# Altium footprint library myLIB.PcbLib: 144 footprints (part 8 of 9)
Each footprint in its own frame and in the unit in brackets; x right, y up, seen from the top. Pads: shape width x height; smd on the part's side, far side on the other; paste and mask are expansions set on the pad; w line width, h text height; cw(c..) or ccw(c..) is an arc to the next point about the centre after c.
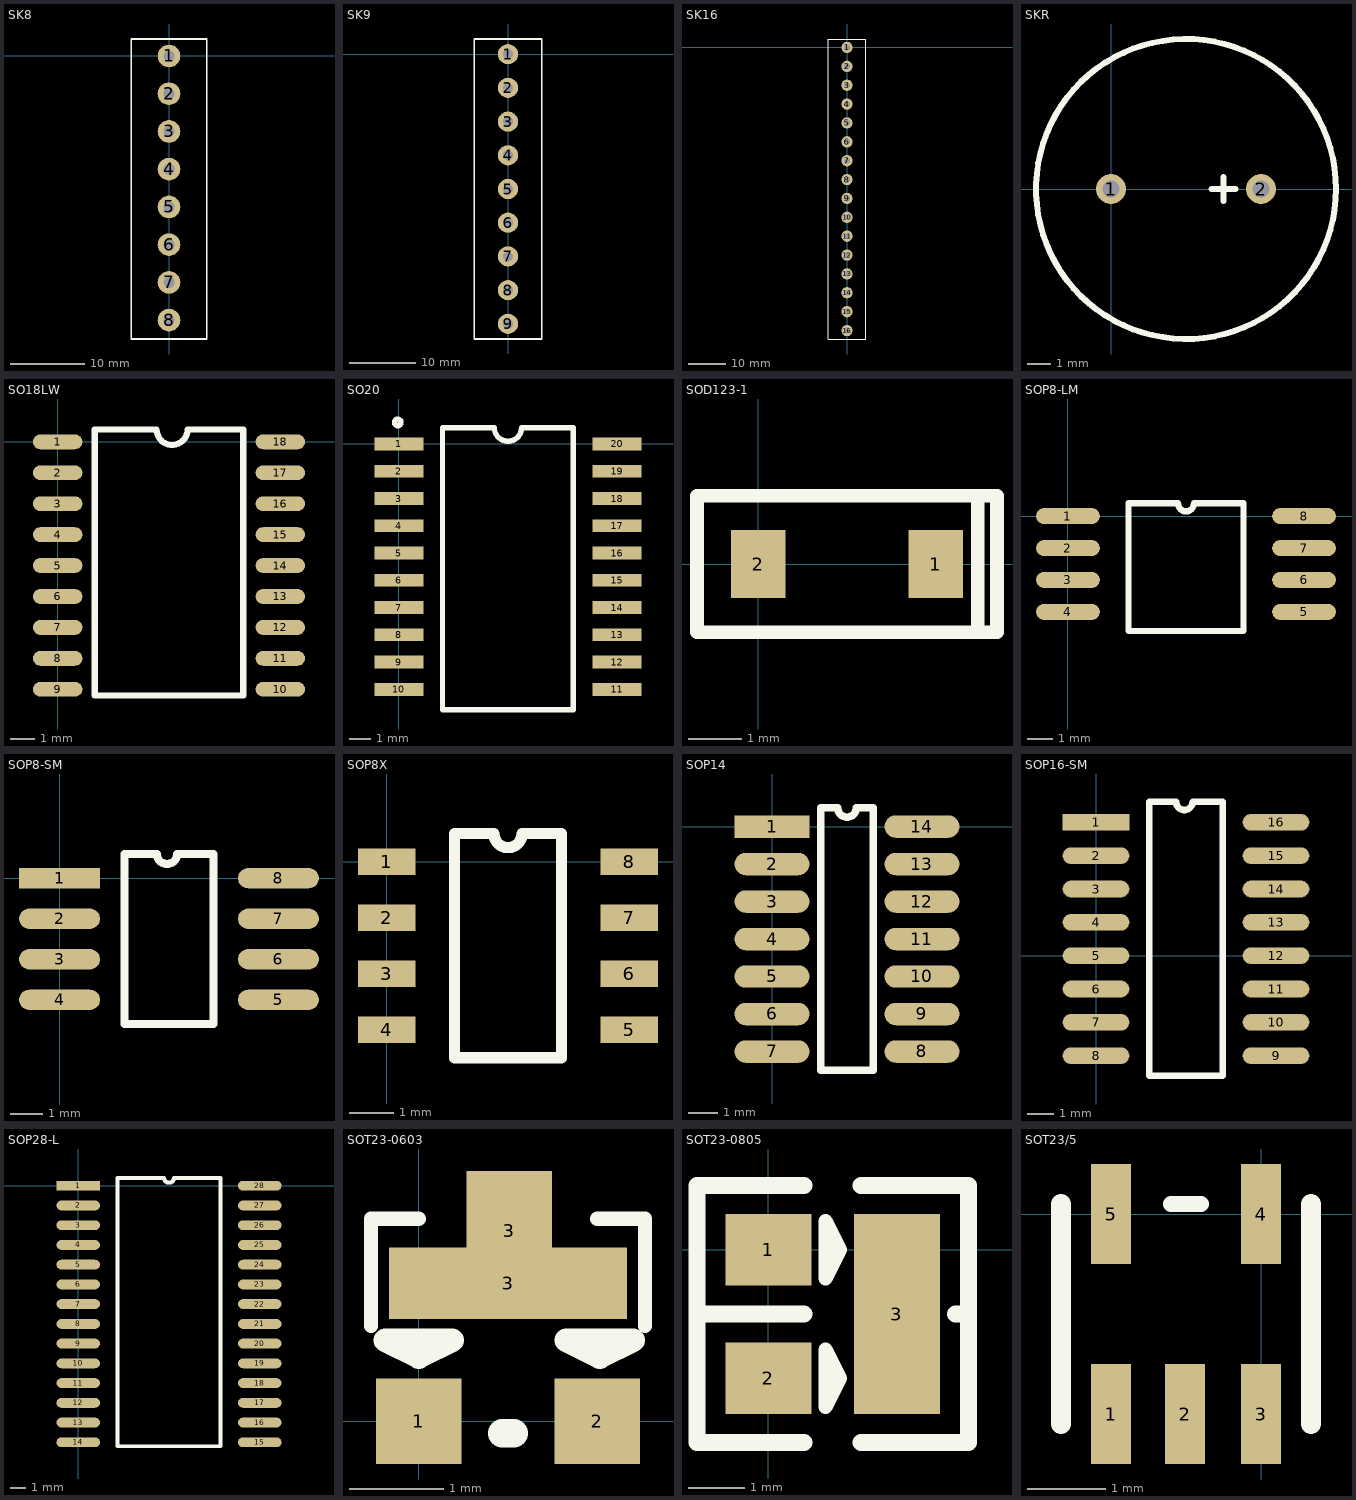
[diagram p7: the footprints below, top view; thin cyan lines are the x and y axes]

## SK8 [mil]
pads (8):
  round 120 hole 60: 1(0,0) 2(0,-200) 3(0,-400) 4(0,-600) 5(0,-800) 6(0,-1000) 7(0,-1200) 8(0,-1400)
TopOverlay:
  lines w10: -200,-1500 200,-1500 200,90 -200,90 -200,-1500

## SK9 [mil]
pads (9):
  round 120 hole 60: 1(0,0) 2(0,-200) 3(0,-400) 4(0,-600) 5(0,-800) 6(0,-1000) 7(0,-1200) 8(0,-1400) 9(0,-1600)
TopOverlay:
  lines w10: -200,-1690 -200,90 200,90 200,-1690 -200,-1690

## SK16 [mil]
pads (16):
  round 120 hole 60: 1(0,0) 2(0,-200) 3(0,-400) 4(0,-600) 5(0,-800) 6(0,-1000) 7(0,-1200) 8(0,-1400) 9(0,-1600) 10(0,-1800) 11(0,-2000) 12(0,-2200) 13(0,-2400) 14(0,-2600) 15(0,-2800) 16(0,-3000)
TopOverlay:
  lines w10: -200,-3090 200,-3090 200,90 -200,90 -200,-3090

## SKR [mil]
pads (2):
  round 50 hole 28: 1(0,0) 2(250,0)
TopOverlay:
  circle w10: c125,0 r250
  lines w10: 167.5,0 207.5,0 ; 187.5,-20 187.5,20

## SO18LW [mil]
pads (18):
  oval 80x24 smd: 1(0,0) 2(0,-50) 3(0,-100) 4(0,-150) 5(0,-200) 6(0,-250) 7(0,-300) 8(0,-350) 9(0,-400) 10(360,-400) 11(360,-350) 12(360,-300) 13(360,-250) 14(360,-200) 15(360,-150) 16(360,-100) 17(360,-50) 18(360,0)
TopOverlay:
  lines w10: 60,-410 60,20 160,20 ccw(c185,20) 210,20 300,20 300,-410 60,-410

## SO20 [mm]
pads (20):
  rect 2.3x0.6 smd: 1(0,0) 2(0,-1.27) 3(0,-2.54) 4(0,-3.81) 5(0,-5.08) 6(0,-6.35) 7(0,-7.62) 8(0,-8.89) 9(0,-10.16) 10(0,-11.43) 11(10.16,-11.43) 12(10.16,-10.16) 13(10.16,-8.89) 14(10.16,-7.62) 15(10.16,-6.35) 16(10.16,-5.08) 17(10.16,-3.81) 18(10.16,-2.54) 19(10.16,-1.27) 20(10.16,0)
TopOverlay:
  circle w0.25: c-0.053,1.002 r0.15
  lines w0.25: 2.028,-12.388 8.128,-12.388 8.128,0.762 5.713,0.762 cw(c5.078,0.762) 4.443,0.762 2.028,0.762 2.028,-12.388

## SOD123-1 [mil]
pads (2):
  rect 40x50 smd: 1(130,0) 2(0,0)
TopOverlay:
  lines w10: 161,-50 161,50 ; -45,-50 175,-50 175,50 -45,50 -45,0 -45,-50

## SOP8-LM [mil]
pads (8):
  oval 100x25 smd: 1(0,0) 2(0,-50) 3(0,-100) 4(0,-150) 5(370,-150) 6(370,-100) 7(370,-50) 8(370,0)
TopOverlay:
  lines w10: 95,-180 95,20 172.5,20 ccw(c185,20) 197.5,20 275,20 275,-180 95,-180

## SOP8-SM [mil]
pads (8):
  rect 100x25 smd: 1(0,0)
  oval 100x25 smd: 2(0,-50) 3(0,-100) 4(0,-150) 5(270,-150) 6(270,-100) 7(270,-50) 8(270,0)
TopOverlay:
  lines w10: 80,-180 190,-180 190,30 145,30 cw(c132.5,30) 120,30 80,30 80,-180

## SOP8X [mm]
pads (8):
  rect 1.3x0.6 smd: 1(0,0) 2(0,-1.27) 3(0,-2.54) 4(0,-3.81) 5(5.5,-3.81) 6(5.5,-2.54) 7(5.5,-1.27) 8(5.5,0)
TopOverlay:
  lines w0.254: 1.539,-4.445 1.539,0.635 2.432,0.635 ccw(c2.75,0.635) 3.067,0.635 3.961,0.635 3.961,-4.445 1.539,-4.445

## SOP14 [mil]
pads (14):
  rect 100x30 smd: 1(0,0)
  oval 100x30 smd: 2(0,-50) 3(0,-100) 4(0,-150) 5(0,-200) 6(0,-250) 7(0,-300) 8(200,-300) 9(200,-250) 10(200,-200) 11(200,-150) 12(200,-100) 13(200,-50) 14(200,0)
TopOverlay:
  lines w10: 65,-325 65,25 87.5,25 ccw(c100,25) 112.5,25 135,25 135,-325 65,-325

## SOP16-SM [mil]
pads (16):
  rect 100x25 smd: 1(0,200)
  oval 100x25 smd: 2(0,150) 3(0,100) 4(0,50) 5(0,0) 6(0,-50) 7(0,-100) 8(0,-150) 9(270,-150) 10(270,-100) 11(270,-50) 12(270,0) 13(270,50) 14(270,100) 15(270,150) 16(270,200)
TopOverlay:
  lines w10: 80,-180 80,231 120,231 ccw(c132.5,231) 145,231 190,231 190,-180 80,-180

## SOP28-L [mil]
pads (28):
  rect 110x25 smd: 1(0,0)
  oval 110x25 smd: 2(0,-50) 3(0,-100) 4(0,-150) 5(0,-200) 6(0,-250) 7(0,-300) 8(0,-350) 9(0,-400) 10(0,-450) 11(0,-500) 12(0,-550) 13(0,-600) 14(0,-650) 15(460,-650) 16(460,-600) 17(460,-550) 18(460,-500) 19(460,-450) 20(460,-400) 21(460,-350) 22(460,-300) 23(460,-250) 24(460,-200) 25(460,-150) 26(460,-100) 27(460,-50) 28(460,0)
TopOverlay:
  lines w10: 100,-660 100,20 217.5,20 ccw(c230,20) 242.5,20 360,20 360,-660 100,-660

## SOT23-0603 [mil]
pads (4):
  rect 36x36 smd: 1(0,0) 2(75,0)
  rect 100x30 smd: 3(37.5,58)
  rect 36x50 smd: 3(38,80)
TopOverlay:
  lines w6: -20,40 -20,85 0,85 ; 75,85 95,85 95,40
  lines w10: -14,34 0,27 ; -14,34 14,34 ; -14,34 0,27 ; -14,34 14,34 ; 0,27 14,34 ; 0,27 14,34 ; 62,34 76,27 90,34 62,34
  lines w12: 35,-5 40,-5

## SOT23-0805 [mil]
pads (3):
  rect 60x50 smd: 1(0,0) 2(0,-90)
  rect 60x140 smd: 3(90,-45)
TopOverlay:
  lines w10: 40,-110 50,-90 40,-70 40,-110 ; 40,-20 50,0 40,20 40,-20
  lines w12: 25,-135 -50,-135 -50,-45 ; 25,45 -50,45 -50,-45 ; 65,-135 140,-135 140,-45 ; 65,45 140,45 140,-45 ; -50,-45 25,-45 -50,-45 ; 140,-45 131,-45 140,-45

## SOT23/5 [mil]
pads (5):
  rect 20x50 smd: 1(-75,-100) 2(-38,-100) 3(0,-100) 4(0,0) 5(-75,0)
TopOverlay:
  lines w7.87: -45,5 -30,5
  lines w10: -100,-105 -100,5 ; 25,-105 25,5